# EAGLE library part MLX10803 (library melexis)
High power LED driver Low cost power LED driver for external n-channel MOSFET switching transistor Source: http://www.mlxsemi.com/prodfiles/0004840_MLX10803rev24.pdf
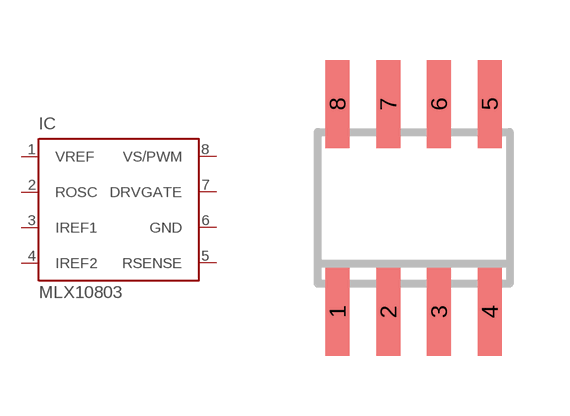
[diagram p0: symbol with the pads of SO-08; footprint SO-08]

Designator prefix IC

## MLX10803  [SO-08]
1  VREF  in
2  ROSC  in
3  IREF1  in
4  IREF2  in
5  RSENSE  in
6  GND  pwr
7  DRVGATE  out
8  VS/PWM  in

## Footprint SO-08 (pad centres in mm)
Small Outline Narrow Plastic Gull Wing SOIC8, JEDEC MS-012 AA, 150-mil body, package type SN
smd 0.6 x 2.2: 1 -1.905,-2.6; 2 -0.635,-2.6; 3 0.635,-2.6; 4 1.905,-2.6; 5 1.905,2.6; 6 0.635,2.6; 7 -0.635,2.6; 8 -1.905,2.6